# EAGLE library part 14-WAY (library pimoroni-headers)
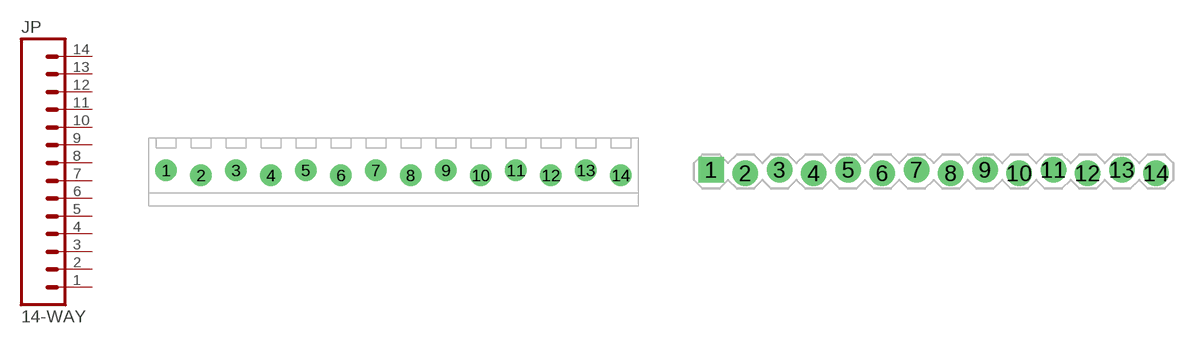
[diagram p8: symbol with the pads of 1X14-3.5MM-SCREWTERMINAL; footprints 1X14-3.5MM-SCREWTERMINAL, 1X14-LOCK]

Designator prefix JP

## 14-WAY3.5MM-SCREW  [1X14-3.5MM-SCREWTERMINAL]
1  1  pas
2  2  pas
3  3  pas
4  4  pas
5  5  pas
6  6  pas
7  7  pas
8  8  pas
9  9  pas
10  10  pas
11  11  pas
12  12  pas
13  13  pas
14  14  pas

## 14-WAYLOCKING  [1X14-LOCK]
Pads as for 1X14-3.5MM-SCREWTERMINAL

## 14-WAYSTRAIGHT  [1X14]
Pads as for 1X14-3.5MM-SCREWTERMINAL

## 14-WAY3.5MM-SCR-NL  [1X14-3.5MM-SCREWTERM-NOLOCK]
Pads as for 1X14-3.5MM-SCREWTERMINAL

## Footprint 1X14-3.5MM-SCREWTERMINAL (pad centres in mm)
drill 1.3 pad 2.184: 1 -22.75,0.25; 2 -19.25,-0.25; 3 -15.75,0.25; 4 -12.25,-0.25; 5 -8.75,0.25; 6 -5.25,-0.25; 7 -1.75,0.25; 8 1.75,-0.25; 9 5.25,0.25; 10 8.75,-0.25; 11 12.25,0.25; 12 15.75,-0.25; 13 19.25,0.25; 14 22.75,-0.25

## Footprint 1X14-LOCK (pad centres in mm)
drill 1.016 pad 1.88 square: 1 -16.51,0.127
drill 1.016 pad 1.88: 2 -13.97,-0.127; 3 -11.43,0.127; 4 -8.89,-0.127; 5 -6.35,0.127; 6 -3.81,-0.127; 7 -1.27,0.127; 8 1.27,-0.127; 9 3.81,0.127; 10 6.35,-0.127; 11 8.89,0.127; 12 11.43,-0.127; 13 13.97,0.127; 14 16.51,-0.127

## Footprint 1X14 (pad centres in mm)
drill 1.016 pad 1.88 square: 1 -16.51,0
drill 1.016 pad 1.88: 2 -13.97,0; 3 -11.43,0; 4 -8.89,0; 5 -6.35,0; 6 -3.81,0; 7 -1.27,0; 8 1.27,0; 9 3.81,0; 10 6.35,0; 11 8.89,0; 12 11.43,0; 13 13.97,0; 14 16.51,0

## Footprint 1X14-3.5MM-SCREWTERM-NOLOCK (pad centres in mm)
drill 1.3 pad 2.184: 1 -22.75,0; 2 -19.25,0; 3 -15.75,0; 4 -12.25,0; 5 -8.75,0; 6 -5.25,0; 7 -1.75,0; 8 1.75,0; 9 5.25,0; 10 8.75,0; 11 12.25,0; 12 15.75,0; 13 19.25,0; 14 22.75,0